# Altium footprint library Baja.PcbLib: 9 footprints
Each footprint in its own frame and in the unit in brackets; x right, y up, seen from the top. Pads: shape width x height; smd on the part's side, far side on the other; paste and mask are expansions set on the pad; w line width, h text height; cw(c..) or ccw(c..) is an arc to the next point about the centre after c.
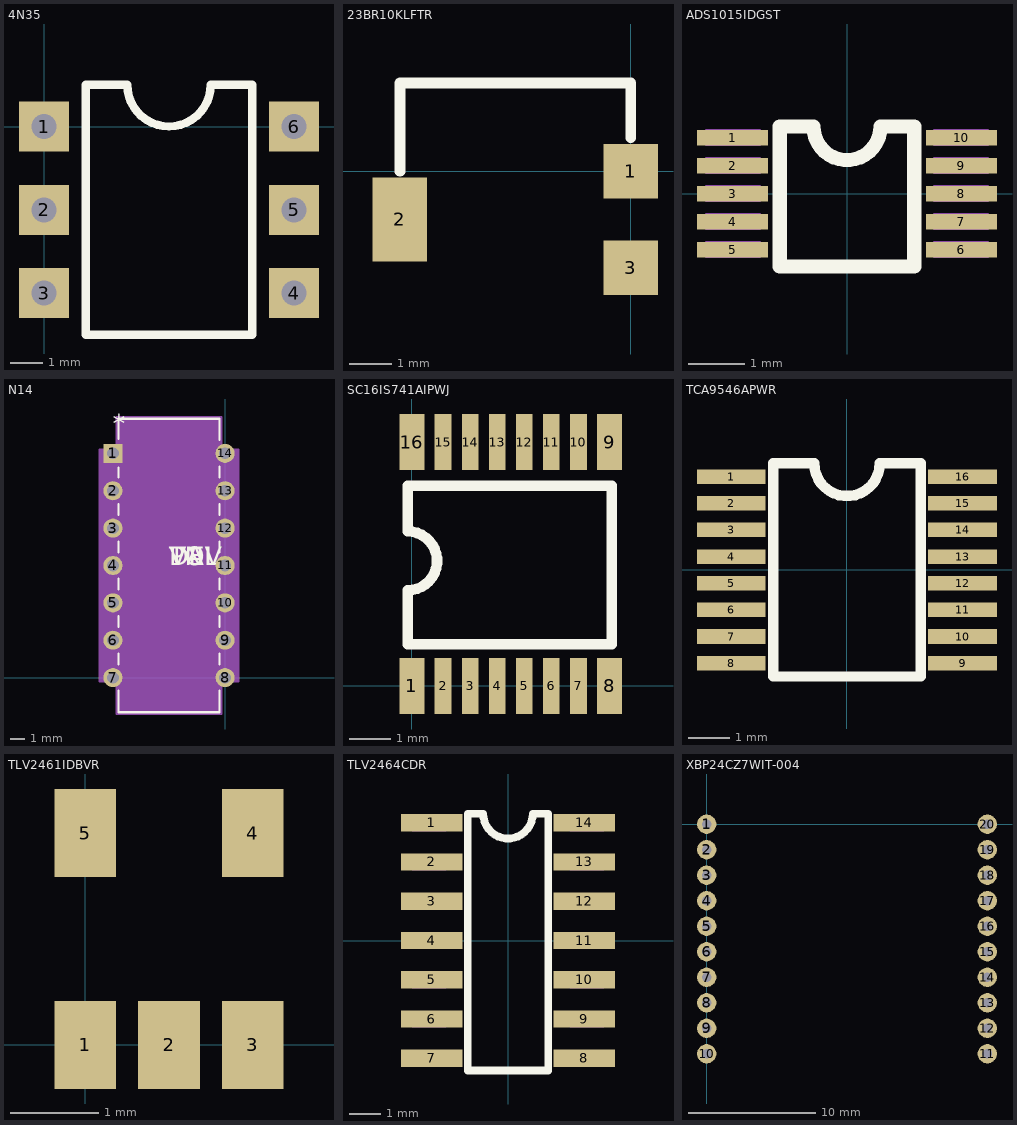
[diagram p0: the footprints below, top view; thin cyan lines are the x and y axes]

## 4N35 [mil] "OPTOISO 3.55KV TRANS W/BASE 6DIP"
pads (6):
  rect 60x60 hole 30 square: 1(0,0) 2(0,-100) 3(0,-200) 4(300,-200) 5(300,-100) 6(300,0)
Top Overlay:
  lines w10: 50,-250 250,-250 250,50 200,50 cw(c150,50) 150,0 cw(c150,50) 100,50 50,50 50,-250
3D body "PZ_4N35.stp": height 229.92, standoff -135.04, extent -9.27,-280.08 309.27,90

## 23BR10KLFTR [mm] "TRIMMER 10K OHM 0.25W SMD"
pads (3):
  rect 1.3x1.3 smd: 1(0,0) 3(0,-2.3)
  rect 1.3x2 smd: 2(-5.5,-1.15)
Top Overlay:
  lines w0.254: -5.5,0 -5.5,2.1 0,2.1 0,0.8
3D body "23B Gull Wing.STEP": height 3.05, standoff 0.05, extent -6.102,-3.7 0.502,1.38

## ADS1015IDGST [mil]
pads (10):
  rect 50x11 smd paste+0 mask+0: 1(-80.5,39.37) 2(-80.5,19.68) 3(-80.5,0) 4(-80.5,-19.68) 5(-80.5,-39.37) 6(80.5,-39.37) 7(80.5,-19.68) 8(80.5,0) 9(80.5,19.68) 10(80.5,39.37)
Top Overlay:
  lines w10: -47.24,-51.18 47.24,-51.18 47.24,47.24 23.62,47.24 cw(c0,47.24) -23.62,47.24 -47.24,47.24 -47.24,-51.18
Mechanical 13:
  lines w1: -99.5,-44.87 -99.5,-33.87 -61,-33.87 -61,-44.87 -99.5,-44.87 ; -99.5,-25.18 -99.5,-14.19 -61,-14.19 -61,-25.18 -99.5,-25.18 ; -99.5,-5.5 -99.5,5.5 -61,5.5 -61,-5.5 -99.5,-5.5 ; -99.5,14.19 -99.5,25.18 -61,25.18 -61,14.19 -99.5,14.19 ; -99.5,33.87 -99.5,44.87 -61,44.87 -61,33.87 -99.5,33.87 ; 61,-44.87 61,-33.87 99.5,-33.87 99.5,-44.87 61,-44.87 ; 61,-25.18 99.5,-25.18 99.5,-14.19 61,-14.19 61,-25.18 ; 61,-5.5 61,5.5 99.5,5.5 99.5,-5.5 61,-5.5 ; 61,14.19 61,25.18 99.5,25.18 99.5,14.19 61,14.19 ; 61,33.87 61,44.87 99.5,44.87 99.5,33.87 61,33.87
3D body "MSOP-10.stp": height 45.28, standoff 0, extent -94.49,-59.06 98.43,59.06

## N14 [mil]
pads (14):
  rect 51x51 / inner round 60 / far side rect 51x51 hole 31 paste+0 mask+0: 1(-300,600)
  round 51 / inner round 60 / far side round 51 hole 31 paste+0 mask+0: 2(-300,500) 3(-300,400) 4(-300,300) 5(-300,200) 6(-300,100) 7(-300,0) 8(0,0) 9(0,100) 10(0,200) 11(0,300) 12(0,400) 13(0,500) 14(0,600)
Top Overlay:
  lines w6: -285,-35.57 -285,-92.5 -15,-92.5 -15,-35.57 ; -285,35.57 -285,64.43 ; -285,135.57 -285,164.43 ; -285,235.57 -285,264.43 ; -285,335.57 -285,364.43 ; -285,435.57 -285,464.43 ; -285,535.57 -285,561.4 ; -285,638.6 -285,692.5 -15,692.5 -15,635.57 ; -15,35.57 -15,64.43 ; -15,135.57 -15,164.43 ; -15,235.57 -15,264.43 ; -15,335.57 -15,364.43 ; -15,435.57 -15,464.43 ; -15,535.57 -15,564.43
  text "*" at -300,655.5 h50
  text "PN" at -150,300 h50
  text "DEV" at -150,300 h50
  text "VAL" at -150,300 h50
  text "TOL" at -150,300 h50
Mechanical 13:
  lines w0: -162,687.5 ccw(c-150,687.5) -138,687.5
  lines w1: -315.5,-15.5 -315.5,15.5 -280,15.5 -280,-15.5 -315.5,-15.5 ; -315.5,84.5 -315.5,115.5 -280,115.5 -280,84.5 -315.5,84.5 ; -315.5,184.5 -315.5,215.5 -280,215.5 -280,184.5 -315.5,184.5 ; -315.5,284.5 -315.5,315.5 -280,315.5 -280,284.5 -315.5,284.5 ; -315.5,384.5 -315.5,415.5 -280,415.5 -280,384.5 -315.5,384.5 ; -315.5,484.5 -315.5,515.5 -280,515.5 -280,484.5 -315.5,484.5 ; -315.5,584.5 -315.5,615.5 -280,615.5 -280,584.5 -315.5,584.5 ; -280,-87.5 -20,-87.5 -20,687.5 -280,687.5 -280,-87.5 ; -20,-15.5 -20,15.5 15.5,15.5 15.5,-15.5 -20,-15.5 ; -20,84.5 -20,115.5 15.5,115.5 15.5,84.5 -20,84.5 ; -20,184.5 -20,215.5 15.5,215.5 15.5,184.5 -20,184.5 ; -20,284.5 -20,315.5 15.5,315.5 15.5,284.5 -20,284.5 ; -20,384.5 -20,415.5 15.5,415.5 15.5,384.5 -20,384.5 ; -20,484.5 -20,515.5 15.5,515.5 15.5,484.5 -20,484.5 ; -20,584.5 -20,615.5 15.5,615.5 15.5,584.5 -20,584.5
  text "*" at -270,600 h50
  text "RefDes2" at 80,250 h50
Mechanical 15:
  region: -10,-10 35.5,-10 35.5,610 -10,610 -10,697.5 -290,697.5 -290,610 -335.5,610 -335.5,-10 -290,-10 -290,-97.5 -10,-97.5
  lines w6: -335.5,-10 -335.5,610 -290,610 -290,697.5 -10,697.5 -10,610 35.5,610 35.5,-10 -10,-10 -10,-97.5 -290,-97.5 -290,-10 -335.5,-10
3D body: height 10, standoff 0, extent 0,0 10,10

## SC16IS741AIPWJ [mm] "IC UART SGL I2C BUS SPI 16TSSOP"
pads (16):
  rect 0.6x1.35 smd: 1(0,0) 8(4.75,0) 9(4.75,5.85) 16(0,5.85)
  rect 0.4x1.35 smd: 2(0.75,0) 3(1.4,0) 4(2.05,0) 5(2.7,0) 6(3.35,0) 7(4,0) 10(4,5.85) 11(3.35,5.85) 12(2.7,5.85) 13(2.05,5.85) 14(1.4,5.85) 15(0.75,5.85)
Top Overlay:
  lines w0.254: -0.1,1 -0.1,2.293 ccw(c-0.1,3) -0.1,3.707 -0.1,4.8 4.8,4.8 4.8,1 -0.1,1
3D body "SC16IS741AIPWJ.STEP": height 1.08, standoff -0.02, extent -0.2,-0.328 4.8,6.128

## TCA9546APWR [mil]
pads (16):
  rect 66x14 smd paste+0 mask+0: 1(-111,89.57) 2(-111,63.98) 3(-111,38.39) 4(-111,12.8) 5(-111,-12.8) 6(-111,-38.39) 7(-111,-63.98) 8(-111,-89.57) 9(111,-89.57) 10(111,-63.98) 11(111,-38.39) 12(111,-12.8) 13(111,12.8) 14(111,38.39) 15(111,63.98) 16(111,89.57)
Top Overlay:
  lines w10: -70.87,-102.36 70.87,-102.36 70.87,102.36 31.5,102.36 cw(c0,102.36) -31.5,102.36 -70.87,102.36 -70.87,-102.36
Mechanical 13:
  lines w1: -130,-95.57 -88.5,-95.57 -88.5,-83.57 -130,-83.57 -130,-95.57 ; -130,-69.98 -88.5,-69.98 -88.5,-57.98 -130,-57.98 -130,-69.98 ; -130,-44.39 -88.5,-44.39 -88.5,-32.39 -130,-32.39 -130,-44.39 ; -130,-18.8 -88.5,-18.8 -88.5,-6.8 -130,-6.8 -130,-18.8 ; -130,6.8 -88.5,6.8 -88.5,18.8 -130,18.8 -130,6.8 ; -130,32.39 -88.5,32.39 -88.5,44.39 -130,44.39 -130,32.39 ; -130,57.98 -88.5,57.98 -88.5,69.98 -130,69.98 -130,57.98 ; -130,83.57 -88.5,83.57 -88.5,95.57 -130,95.57 -130,83.57 ; 88.5,-95.57 130,-95.57 130,-83.57 88.5,-83.57 88.5,-95.57 ; 88.5,-69.98 130,-69.98 130,-57.98 88.5,-57.98 88.5,-69.98 ; 88.5,-44.39 130,-44.39 130,-32.39 88.5,-32.39 88.5,-44.39 ; 88.5,-18.8 130,-18.8 130,-6.8 88.5,-6.8 88.5,-18.8 ; 88.5,6.8 130,6.8 130,18.8 88.5,18.8 88.5,6.8 ; 88.5,32.39 130,32.39 130,44.39 88.5,44.39 88.5,32.39 ; 88.5,57.98 130,57.98 130,69.98 88.5,69.98 88.5,57.98 ; 88.5,83.57 130,83.57 130,95.57 88.5,95.57 88.5,83.57
3D body "SC16IS741AIPWJ.STEP": height 37.4, standoff -5.91, extent -127.08,-94.49 127.08,102.36

## TLV2461IDBVR [mm] "IC OPAMP GP 6.4MHZ RRO SOT23-5"
pads (5):
  rect 0.7x1 smd: 1(0,0) 2(0.95,0) 3(1.9,0) 4(1.9,2.4) 5(0,2.4)

## TLV2464CDR [mil]
pads (14):
  rect 78x22 smd paste+0 mask+0: 1(-97,150) 2(-97,100) 3(-97,50) 4(-97,0) 5(-97,-50) 6(-97,-100) 7(-97,-150) 8(97,-150) 9(97,-100) 10(97,-50) 11(97,0) 12(97,50) 13(97,100) 14(97,150)
Top Overlay:
  lines w10: -51.18,-165.35 51.18,-165.35 51.18,161.42 31.5,161.42 cw(c0,161.42) -31.5,161.42 -51.18,161.42 -51.18,-165.35
Mechanical 13:
  lines w1: -122,-160 -122,-140 -78.5,-140 -78.5,-160 -122,-160 ; -122,-110 -122,-90 -78.5,-90 -78.5,-110 -122,-110 ; -122,-60 -122,-40 -78.5,-40 -78.5,-60 -122,-60 ; -122,-10 -122,10 -78.5,10 -78.5,-10 -122,-10 ; -122,40 -122,60 -78.5,60 -78.5,40 -122,40 ; -122,90 -122,110 -78.5,110 -78.5,90 -122,90 ; -122,140 -122,160 -78.5,160 -78.5,140 -122,140 ; 78.5,-160 78.5,-140 122,-140 122,-160 78.5,-160 ; 78.5,-110 78.5,-90 122,-90 122,-110 78.5,-110 ; 78.5,-60 78.5,-40 122,-40 122,-60 78.5,-60 ; 78.5,-10 78.5,10 122,10 122,-10 78.5,-10 ; 78.5,40 78.5,60 122,60 122,40 78.5,40 ; 78.5,90 78.5,110 122,110 122,90 78.5,90 ; 78.5,140 78.5,160 122,160 122,140 78.5,140
3D body "SOIC14 narrow.stp": height 78.74, standoff 0.13, extent -121.32,-173.42 121.32,173.43

## XBP24CZ7WIT-004 [mil] "RF TXRX MODULE 802.15.4 WIRE ANT"
pads (20):
  round 60 hole 30: 1(0,0) 2(0,-78.74) 3(0,-157.48) 4(0,-236.22) 5(0,-314.96) 6(0,-393.7) 7(0,-472.44) 8(0,-551.18) 9(0,-629.92) 10(0,-708.66) 11(866.14,-708.66) 12(866.14,-629.92) 13(866.14,-551.18) 14(866.14,-472.44) 15(866.14,-393.7) 16(866.14,-314.96) 17(866.14,-236.22) 18(866.14,-157.48) 19(866.14,-78.74) 20(866.14,0)
3D body "XBEE.STEP": height 231, standoff -39, extent -49.92,-1000 909.92,296.85